# Altium schematic symbol library SPST_Relay.SchLib: 11 symbols
Pins are listed as number, name and electrical type; pins without a type are passive.

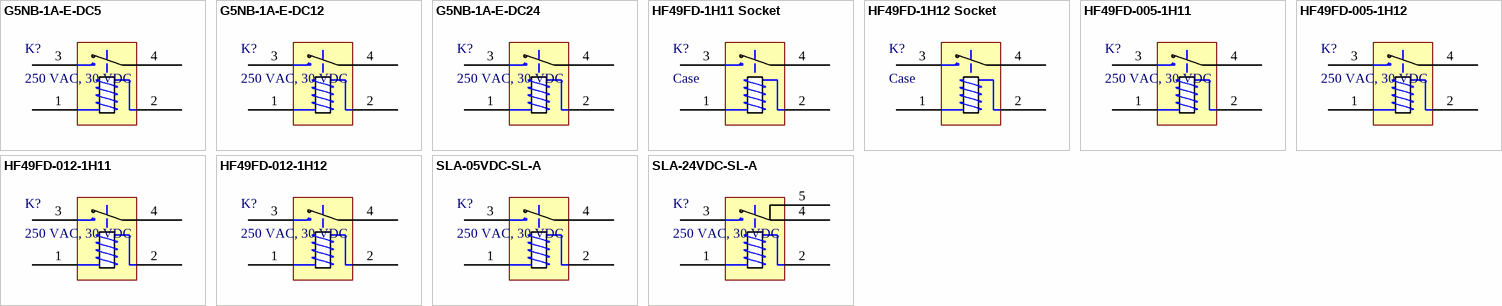
[diagram p0: symbols G5NB-1A-E-DC5 to SLA-24VDC-SL-A]

## G5NB-1A-E-DC5
designator K?, comment 250 VAC, 30 VDC
General Purpose Relays SPST-NO Flux-Tight 5VDC High-Capacity; Manufacturer: Hongfa; Manufacturer Part Number: HF46F-G 5-HS1; Contact Current Rating: 5 A; Coil Current: 40 mA; Coil Resistance: 125 Ohms; Power Consumption: 200 mW; Coil Voltage: 5 VDC; Switching Voltage Max: 250 VAC, 30 VDC; Associated Relay Series: N/A; ComponentLink1Description: Datasheet; ComponentLink1URL: https://www.mouser.vn/datasheet/2/307/en_g5nb-1112517.pdf; Supplier 1 URL: https://www.mouser.vn/ProductDetail/Omron-Electronics/G5NB-1A-E-DC24?qs=3jhwTwe4bOHjt65REhrORA%3D%3D; Supplier 2 URL: N/A; Supplier 3 URL: https://www.thegioiic.com/hf46f-g-5-hs1-ro-le-5vdc-7a-spst-no-4-chan; Value: 250 VAC, 30 VDC; Mount: THT; Package / Case: SPST; Packaging: Tape and Reel; Supplier 1: Mouser; Supplier 1 Part Number: 653-G5NB-1A-E-DC5; Supplier 2: Digi-Key; Supplier 2 Part Number: N/A; Supplier 3: thegioiic; Supplier 3 Part Number: N/A
footprint HF46F
pins: 1 Coil "-", 2 Coil "+", 3 NO, 4

## G5NB-1A-E-DC12
designator K?, comment 250 VAC, 30 VDC
General Purpose Relays SPST-NO Flux-Tight 12VDC High-Capacity; Manufacturer: Hongfa; Manufacturer Part Number: HF46F-G 12-HS1; Contact Current Rating: 5 A; Coil Current: 16.7 mA; Coil Resistance: 720 Ohms; Power Consumption: 200 mW; Coil Voltage: 12 VDC; Switching Voltage Max: 250 VAC, 30 VDC; Associated Relay Series: N/A; ComponentLink1Description: Datasheet; ComponentLink1URL: https://www.mouser.vn/datasheet/2/307/en_g5nb-1112517.pdf; Supplier 1 URL: https://www.mouser.vn/ProductDetail/Omron-Electronics/G5NB-1A-E-DC24?qs=3jhwTwe4bOHjt65REhrORA%3D%3D; Supplier 2 URL: N/A; Supplier 3 URL: https://www.thegioiic.com/hf46f-g-12-hs1-ro-le-12vdc-7a-spst-no-4-chan; Value: 250 VAC, 30 VDC; Mount: THT; Package / Case: SPST; Packaging: Tape and Reel; Supplier 1: Mouser; Supplier 1 Part Number: 653-G5NB-1A-E-DC12; Supplier 2: Digi-Key; Supplier 2 Part Number: N/A; Supplier 3: thegioiic; Supplier 3 Part Number: N/A
footprint HF46F
pins: 1 Coil "-", 2 Coil "+", 3 NO, 4

## G5NB-1A-E-DC24
designator K?, comment 250 VAC, 30 VDC
General Purpose Relays SPST-NO Flux-Tight 24VDC High-Capacity; Manufacturer: Hongfa; Manufacturer Part Number: G5NB-1A-E-24VDC; Contact Current Rating: 5 A; Coil Current: 8.3 mA; Coil Resistance: 2.88 kOhms; Power Consumption: 200 mW; Coil Voltage: 24 VDC; Switching Voltage Max: 250 VAC, 30 VDC; Associated Relay Series: N/A; ComponentLink1Description: Datasheet; ComponentLink1URL: https://www.mouser.vn/datasheet/2/307/en_g5nb-1112517.pdf; Supplier 1 URL: https://www.mouser.vn/ProductDetail/Omron-Electronics/G5NB-1A-E-DC24?qs=3jhwTwe4bOHjt65REhrORA%3D%3D; Supplier 2 URL: N/A; Supplier 3 URL: https://www.thegioiic.com/g5nb-1a-e-24vdc-ro-le-24vdc-5a-spst-no-4-chan; Value: 250 VAC, 30 VDC; Mount: THT; Package / Case: SPST; Packaging: Tape and Reel; Supplier 1: Mouser; Supplier 1 Part Number: 653-G5NB-1A-E-DC24; Supplier 2: Digi-Key; Supplier 2 Part Number: N/A; Supplier 3: thegioiic; Supplier 3 Part Number: N/A
footprint HF46F
pins: 1 Coil "-", 2 Coil "+", 3 NO, 4

## HF49FD-1H11 Socket
designator K?, comment Case
Associated Relay Series: HF49FD-1H11; Manufacturer: OEM; Coil Current: N/A; Coil Resistance: N/A; Coil Voltage: N/A; ComponentLink1Description: Datasheet; ComponentLink1URL: N/A; Contact Current Rating: N/A; Power Consumption: N/A; Supplier 1 URL: N/A; Supplier 2 URL: N/A; Supplier 3 URL: https://www.thegioiic.com/de-relay-hf49fd-1h11-4-chan; Switching Voltage Max: N/A; Value: Case; Manufacturer Part Number: HF49FD-1H11; Mount: THT; Package / Case: SPST; Packaging: Tape and Reel; Supplier 1: Mouser; Supplier 1 Part Number: N/A; Supplier 2: Digi-Key; Supplier 2 Part Number: N/A; Supplier 3: thegioiic; Supplier 3 Part Number: N/A
footprint HF49FD-1H11 Relay Scoket
pins: 1 Coil "-", 2 Coil "+", 3 NO, 4

## HF49FD-1H12 Socket
designator K?, comment Case
Associated Relay Series: HF49FD-1H12; Manufacturer: OEM; Coil Current: N/A; Coil Resistance: N/A; Coil Voltage: N/A; ComponentLink1Description: Datasheet; ComponentLink1URL: N/A; Contact Current Rating: N/A; Power Consumption: N/A; Supplier 1 URL: N/A; Supplier 2 URL: N/A; Supplier 3 URL: https://www.thegioiic.com/de-relay-hf49fd-1h12-4-chan; Switching Voltage Max: N/A; Value: Case; Manufacturer Part Number: HF49FD-1H12; Mount: THT; Package / Case: SPST; Packaging: Tape and Reel; Supplier 1: Mouser; Supplier 1 Part Number: N/A; Supplier 2: Digi-Key; Supplier 2 Part Number: N/A; Supplier 3: thegioiic; Supplier 3 Part Number: N/A
footprint HF49FD-1H12 Relay Scoket
pins: 1 Coil "-", 2 Coil "+", 3 NO, 4

## HF49FD-005-1H11
designator K?, comment 250 VAC, 30 VDC
Coil Voltage: 5 VDC; Contact Current Rating: 5A; Switching Voltage Max: 250 VAC, 30 VDC; Manufacturer: Hongfa; Manufacturer Part Number: HF49FD-005-1H11; Coil Voltage: 5 VDC; Associated Relay Series: N/A; Coil Current: N/A; Coil Resistance: N/A; ComponentLink1Description: Datasheet; ComponentLink1URL: https://source.hongfa.com//pdf/web/viewer.html?file=/Uploads/Product/PDF/HF49FD_en.pdf; Power Consumption: N/A; Supplier 1 URL: N/A; Supplier 2 URL: N/A; Supplier 3 URL: https://www.thegioiic.com/hf49fd-005-1h11-ro-le-5vdc-5a-spst-no-4-chan; Value: 250 VAC, 30 VDC; Mount: THT; Package / Case: SPST; Packaging: Tape and Reel; Supplier 1: Mouser; Supplier 1 Part Number: N/A; Supplier 2: Digi-Key; Supplier 2 Part Number: N/A; Supplier 3: thegioiic; Supplier 3 Part Number: N/A
footprint HF49FD-1H11
pins: 1 Coil "-", 2 Coil "+", 3 NO, 4

## HF49FD-005-1H12
designator K?, comment 250 VAC, 30 VDC
Coil Voltage: 5 VDC; Contact Current Rating: 5A; Switching Voltage Max: 250 VAC, 30 VDC; Manufacturer: Hongfa; Manufacturer Part Number: HF49FD-005-1H12; Coil Voltage: 5 VDC; Associated Relay Series: N/A; Coil Current: N/A; Coil Resistance: N/A; ComponentLink1Description: Datasheet; ComponentLink1URL: https://source.hongfa.com//pdf/web/viewer.html?file=/Uploads/Product/PDF/HF49FD_en.pdf; Power Consumption: N/A; Supplier 1 URL: N/A; Supplier 2 URL: N/A; Supplier 3 URL: https://www.thegioiic.com/hf49fd-005-1h12-ro-le-5vdc-5a-spst-no-4-chan; Value: 250 VAC, 30 VDC; Mount: THT; Package / Case: SPST; Packaging: Tape and Reel; Supplier 1: Mouser; Supplier 1 Part Number: N/A; Supplier 2: Digi-Key; Supplier 2 Part Number: N/A; Supplier 3: thegioiic; Supplier 3 Part Number: N/A
footprint HF49FD-1H12
pins: 1 Coil "-", 2 Coil "+", 3 NO, 4

## HF49FD-012-1H11
designator K?, comment 250 VAC, 30 VDC
Coil Voltage: 12 VDC; Contact Current Rating: 5A; Switching Voltage Max: 250 VAC, 30 VDC; Manufacturer: Hongfa; Manufacturer Part Number: HF49FD-012-1H11; Coil Voltage: 12 VDC; Associated Relay Series: N/A; Coil Current: N/A; Coil Resistance: N/A; ComponentLink1Description: Datasheet; ComponentLink1URL: https://source.hongfa.com//pdf/web/viewer.html?file=/Uploads/Product/PDF/HF49FD_en.pdf; Power Consumption: N/A; Supplier 1 URL: N/A; Supplier 2 URL: N/A; Supplier 3 URL: https://www.thegioiic.com/hf49fd-012-1h11-ro-le-12vdc-5a-spst-no-4-chan; Value: 250 VAC, 30 VDC; Mount: THT; Package / Case: SPST; Packaging: Tape and Reel; Supplier 1: Mouser; Supplier 1 Part Number: N/A; Supplier 2: Digi-Key; Supplier 2 Part Number: N/A; Supplier 3: thegioiic; Supplier 3 Part Number: N/A
footprint HF49FD-1H11
pins: 1 Coil "-", 2 Coil "+", 3 NO, 4

## HF49FD-012-1H12
designator K?, comment 250 VAC, 30 VDC
Coil Voltage: 12 VDC; Contact Current Rating: 5A; Switching Voltage Max: 250 VAC, 30 VDC; Manufacturer: Hongfa; Manufacturer Part Number: HF49FD-012-1H12; Coil Voltage: 12 VDC; Associated Relay Series: N/A; Coil Current: N/A; Coil Resistance: N/A; ComponentLink1Description: Datasheet; ComponentLink1URL: https://source.hongfa.com//pdf/web/viewer.html?file=/Uploads/Product/PDF/HF49FD_en.pdf; Power Consumption: N/A; Supplier 1 URL: N/A; Supplier 2 URL: N/A; Supplier 3 URL: https://www.thegioiic.com/hf49fd-012-1h12-ro-le-12vdc-5a-spst-no-4-chan; Value: 250 VAC, 30 VDC; Mount: THT; Package / Case: SPST; Packaging: Tape and Reel; Supplier 1: Mouser; Supplier 1 Part Number: N/A; Supplier 2: Digi-Key; Supplier 2 Part Number: N/A; Supplier 3: thegioiic; Supplier 3 Part Number: N/A
footprint HF49FD-1H12
pins: 1 Coil "-", 2 Coil "+", 3 NO, 4

## SLA-05VDC-SL-A
designator K?, comment 250 VAC, 30 VDC
SUBMINATURE HIGH POWER RELAY 4P 30A; Manufacturer: Ningbo Songle Relay; Manufacturer Part Number: SLA-05VDC-SL-A; Coil Voltage: 5 VDC; Coil Current: 40 mA; Coil Resistance: 27 Ohms; Power Consumption: 900 mW; Contact Current Rating: 30 A; Switching Voltage Max: 250 VAC, 30 VDC; Associated Relay Series: N/A; ComponentLink1Description: Datasheet; ComponentLink1URL: https://www.lcsc.com/datasheet/lcsc_datasheet_2308031753_Ningbo-Songle-Relay-SLA-24VDC-SL-A_C80812.pdf; Supplier 1 URL: N/A; Supplier 2 URL: N/A; Supplier 3 URL: https://www.thegioiic.com/sla-05vdc-sl-a-ro-le-5vdc-30a-spst-4-chan; Value: 250 VAC, 30 VDC; Mount: THT; Package / Case: SPST; Packaging: Tape and Reel; Supplier 1: Mouser; Supplier 1 Part Number: N/A; Supplier 2: Digi-Key; Supplier 2 Part Number: N/A; Supplier 3: thegioiic; Supplier 3 Part Number: SLA-05VDC-SL-A
footprint SLA-05VDC-SL-A
pins: 1 Coil "-", 2 Coil "+", 3 NO, 4

## SLA-24VDC-SL-A
designator K?, comment 250 VAC, 30 VDC
SUBMINATURE HIGH POWER RELAY 5P 30A; Manufacturer: Ningbo Songle Relay; Manufacturer Part Number: SLA-24VDC-SL-A; Coil Voltage: 24 VDC; Coil Current: 37.5 mA; Coil Resistance: 640 Ohms; Power Consumption: 900 mW; Contact Current Rating: 30 A; Switching Voltage Max: 250 VAC, 30 VDC; Associated Relay Series: N/A; ComponentLink1Description: Datasheet; ComponentLink1URL: https://www.lcsc.com/datasheet/lcsc_datasheet_2308031753_Ningbo-Songle-Relay-SLA-24VDC-SL-A_C80812.pdf; Supplier 1 URL: N/A; Supplier 2 URL: N/A; Supplier 3 URL: https://linhkienchatluong.vn/relay-24v/sla-24vdc-sl-a-t90-relay-24v-30a-5-chan_sp635_ct3937.aspx; Value: 250 VAC, 30 VDC; Mount: THT; Package / Case: SPST; Packaging: Tape and Reel; Supplier 1: Mouser; Supplier 1 Part Number: N/A; Supplier 2: Digi-Key; Supplier 2 Part Number: N/A; Supplier 3: linhkienchatluong; Supplier 3 Part Number: SLA-24VDC-SL-A
footprint SLA-05VDC-SL-A
pins: 1 Coil "-", 2 Coil "+", 3 NO, 4, 5